# EAGLE library part MB85RS4MTPF-G-BCERE1 (library Library_Mateusz.Kowalec)
F-RAM 4Mbit FeRAM with SPI interface - SOP8 (208mil) T&R Source: Datasheet <https://www.mouser.pl/datasheet/3/3800/1/MB85RS4MT-DS3v0-E.pdf>
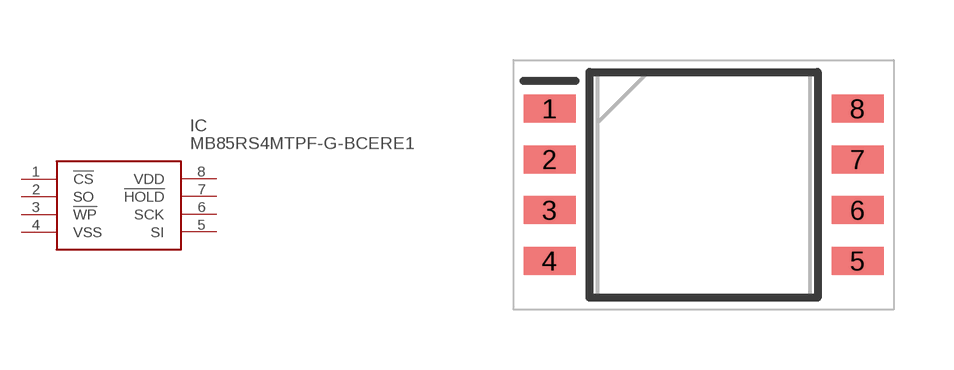
[diagram p1: symbol with the pads of SOIC127P810X173-8N; footprint SOIC127P810X173-8N]

Designator prefix IC

## MB85RS4MTPF-G-BCERE1 (DESCRIPTION: F-RAM 4Mbit FeRAM with SPI interface - SOP8 (208mil) T&R; HEIGHT: 1.73mm; MANUFACTURER_NAME: Ramxeed; MANUFACTURER_PART_NUMBER: MB85RS4MTPF-G-BCERE1; MOUSER_PART_NUMBER: 249-85RS4MTPFGBCERE1; MOUSER_PRICE-STOCK: https://www.mouser.co.uk/ProductDetail/Fujitsu-Semiconductor/MB85RS4MTPF-G-BCERE1?qs=Znm5pLBrcAKn9V4PKcnB5g%3D%3D)  [SOIC127P810X173-8N]
1  !CS
2  SO
3  !WP
4  VSS
5  SI
6  SCK
7  !HOLD
8  VDD

## Footprint SOIC127P810X173-8N (pad centres in mm)
8-pin plastic SOP
smd 1.3 x 0.7: 1 -3.85,1.905; 2 -3.85,0.635; 3 -3.85,-0.635; 4 -3.85,-1.905; 5 3.85,-1.905; 6 3.85,-0.635; 7 3.85,0.635; 8 3.85,1.905